# Altium footprint library MSS6132.PcbLib: 1 footprints
Each footprint in its own frame and in the unit in brackets; x right, y up, seen from the top. Pads: shape width x height; smd on the part's side, far side on the other; paste and mask are expansions set on the pad; w line width, h text height; cw(c..) or ccw(c..) is an arc to the next point about the centre after c.
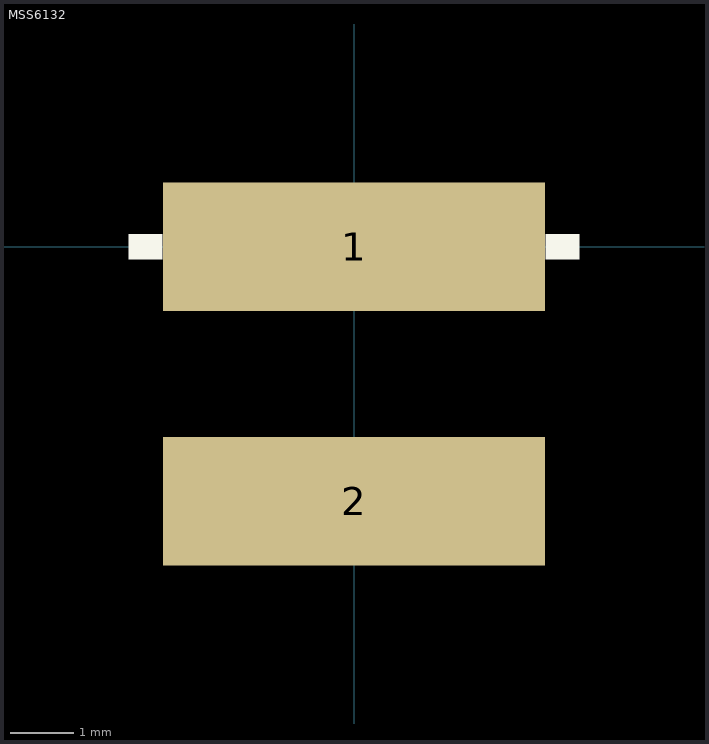
[diagram p0: the footprint, top view; thin cyan lines are the x and y axes]

## MSS6132 [mil] "Test Point"
height 1
pads (2):
  rect 237x80 smd: 1(0,0) 2(0,-158)
TopOverlay:
  rectangle: -140,-8 -119,8
  rectangle: 119,-8 140,8
3D body: height 126.59, standoff 0.6, extent -117.99,-195.84 118,39